# Altium schematic symbol library MyComponents.SchLib: 2 symbols
Pins are listed as number, name and electrical type; pins without a type are passive.

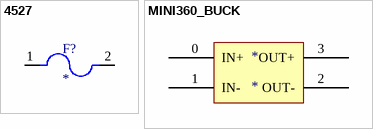
[diagram p0: symbols 4527 to MINI360_BUCK]

## 4527
designator F?
5mm Low Profile Holder; MP: 4527; MF: Keystone; Price: None; Purchase-URL: https://pricing.snapeda.com/search/part/4527/?ref=eda; Package: None; Availability: In Stock; SnapEDA_Link: https://www.snapeda.com/parts/4527/Keystone+Electronics/view-part/?ref=snap; Value: *; Check_prices: https://www.snapeda.com/parts/4527/Keystone+Electronics/view-part/?ref=eda
footprint FUSE_4527
pins: 1, 2

## MINI360_BUCK
designator *
footprint MINI360_BUCK
pins: 0 IN+, 1 IN-, 2 OUT-, 3 OUT+